# EAGLE library part NE555DR (library NE555)
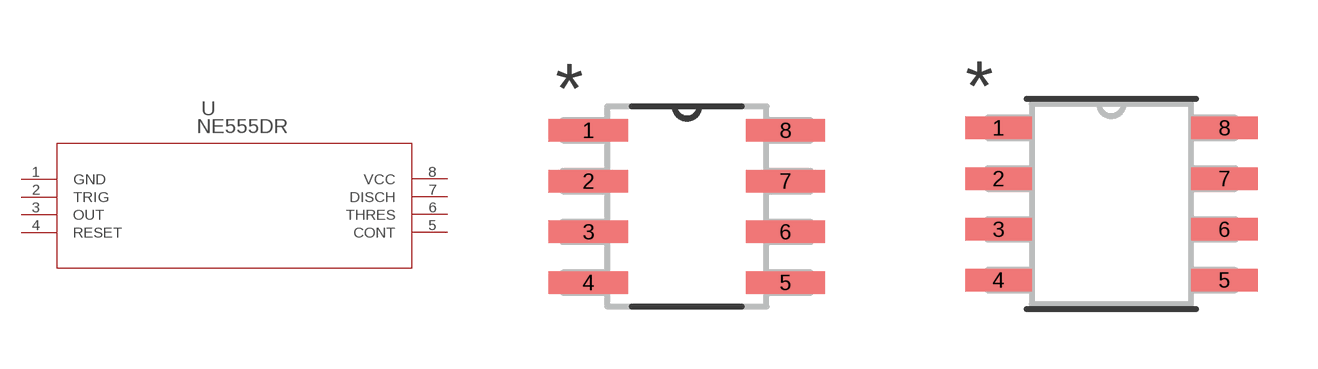
[diagram p0: symbol with the pads of D8; footprints D8, D8-M]

Designator prefix U

## NE555DRD8 (Copyright: Copyright (C) 2026 Ultra Librarian. All rights reserved.; Datasheet: https://www.ti.com/lit/gpn/ne555; Description: Single Precision Timer 8-SOIC 0 to 70; Manufacturer_Name: Texas Instruments; Manufacturer_Part_Number: NE555DR)  [D8]
1  GND  pwr
2  TRIG  in
3  OUT  out
4  RESET  in
5  CONT  pas
6  THRES  in
7  DISCH  pas
8  VCC  pwr

## NE555DRD8-M (Copyright: Copyright (C) 2026 Ultra Librarian. All rights reserved.; Datasheet: https://www.ti.com/lit/gpn/ne555; Description: Single Precision Timer 8-SOIC 0 to 70; Manufacturer_Name: Texas Instruments; Manufacturer_Part_Number: NE555DR)  [D8-M]
Pads as for D8

## NE555DRD8-L (Copyright: Copyright (C) 2026 Ultra Librarian. All rights reserved.; Datasheet: https://www.ti.com/lit/gpn/ne555; Description: Single Precision Timer 8-SOIC 0 to 70; Manufacturer_Name: Texas Instruments; Manufacturer_Part_Number: NE555DR)  [D8-L]
Pads as for D8

## Footprint D8 (pad centres in mm)
smd 1.981 x 0.559: 1 -2.464,1.905; 2 -2.464,0.635; 3 -2.464,-0.635; 4 -2.464,-1.905; 5 2.464,-1.905; 6 2.464,-0.635; 7 2.464,0.635; 8 2.464,1.905

## Footprint D8-M (pad centres in mm)
smd 1.664 x 0.559: 1 -2.826,1.905; 2 -2.826,0.635; 3 -2.826,-0.635; 4 -2.826,-1.905; 5 2.826,-1.905; 6 2.826,-0.635; 7 2.826,0.635; 8 2.826,1.905

## Footprint D8-L (pad centres in mm)
smd 1.257 x 0.508: 1 -2.623,1.905; 2 -2.623,0.635; 3 -2.623,-0.635; 4 -2.623,-1.905; 5 2.623,-1.905; 6 2.623,-0.635; 7 2.623,0.635; 8 2.623,1.905